# EAGLE library part TM4C123GH6PMI (library tiva)
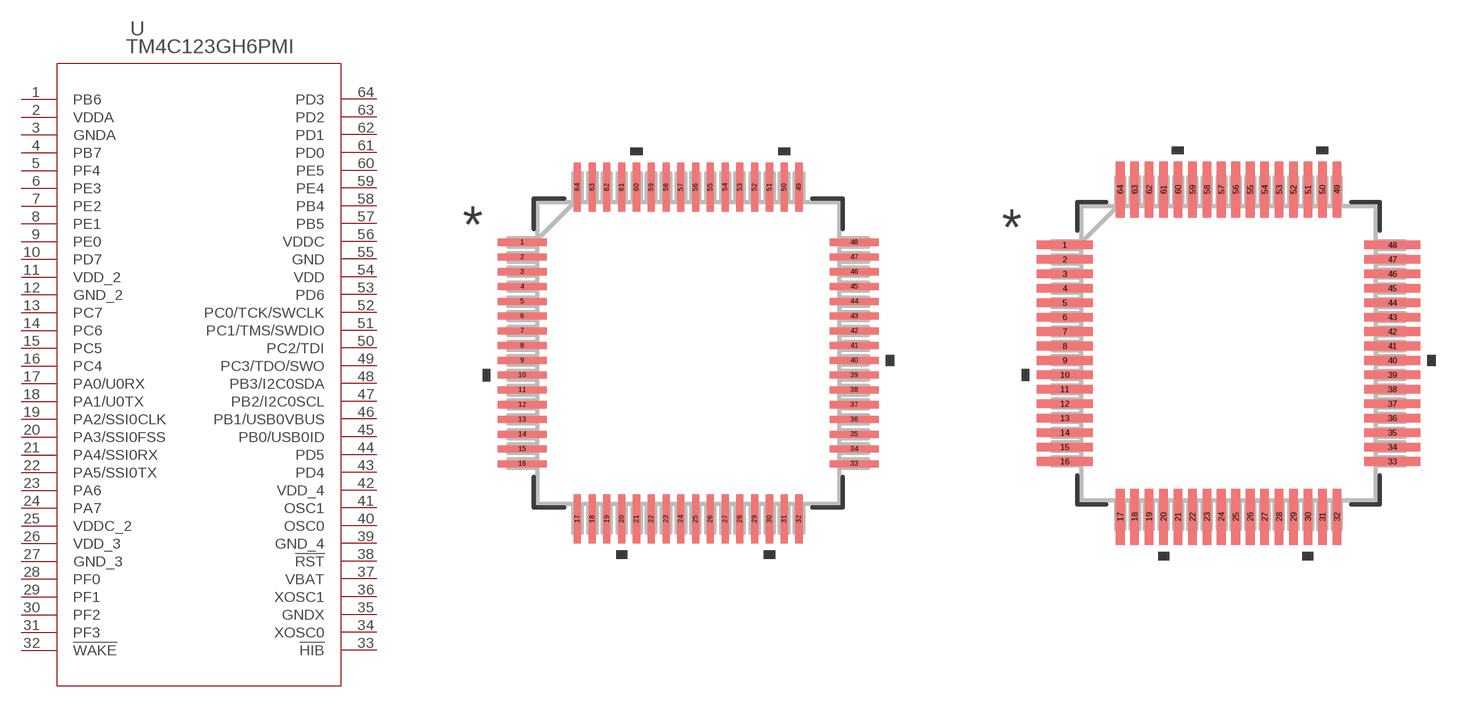
[diagram p0: symbol with the pads of PM64; footprints PM64, PM64-M]

Designator prefix U

## TM4C123GH6PMI (MANUFACTURER_PART_NUMBER: TM4C123GH6PMI; VENDOR: Texas Instruments)  [PM64]
1  PB6
2  VDDA  pwr
3  GNDA  pwr
4  PB7
5  PF4
6  PE3
7  PE2
8  PE1
9  PE0
10  PD7
11  VDD_2  pwr
12  GND_2  pwr
13  PC7
14  PC6
15  PC5
16  PC4
17  PA0/U0RX
18  PA1/U0TX
19  PA2/SSI0CLK
20  PA3/SSI0FSS
21  PA4/SSI0RX
22  PA5/SSI0TX
23  PA6
24  PA7
25  VDDC_2  pwr
26  VDD_3  pwr
27  GND_3  pwr
28  PF0
29  PF1
30  PF2
31  PF3
32  !WAKE  in
33  !HIB  out
34  XOSC0  in
35  GNDX  pwr
36  XOSC1  out
37  VBAT  pwr
38  !RST  in
39  GND_4  pwr
40  OSC0  in
41  OSC1  out
42  VDD_4  pwr
43  PD4
44  PD5
45  PB0/USB0ID
46  PB1/USB0VBUS
47  PB2/I2C0SCL
48  PB3/I2C0SDA
49  PC3/TDO/SWO
50  PC2/TDI
51  PC1/TMS/SWDIO
52  PC0/TCK/SWCLK
53  PD6
54  VDD  pwr
55  GND  pwr
56  VDDC  pwr
57  PB5
58  PB4
59  PE4
60  PE5
61  PD0
62  PD1
63  PD2
64  PD3

## TM4C123GH6PMIPM64-M (MANUFACTURER_PART_NUMBER: TM4C123GH6PMI; VENDOR: Texas Instruments)  [PM64-M]
Pads as for PM64

## TM4C123GH6PMIPM64-L (MANUFACTURER_PART_NUMBER: TM4C123GH6PMI; VENDOR: Texas Instruments)  [PM64-L]
Pads as for PM64

## Footprint PM64 (pad centres in mm)
smd 1.653 x 0.239: 1 -5.62,3.75; 2 -5.62,3.25; 3 -5.62,2.75; 4 -5.62,2.25; 5 -5.62,1.75; 6 -5.62,1.25; 7 -5.62,0.75; 8 -5.62,0.25; 9 -5.62,-0.25; 10 -5.62,-0.75; 11 -5.62,-1.25; 12 -5.62,-1.75; 13 -5.62,-2.25; 14 -5.62,-2.75; 15 -5.62,-3.25; 16 -5.62,-3.75; 33 5.62,-3.75; 34 5.62,-3.25; 35 5.62,-2.75; 36 5.62,-2.25; 37 5.62,-1.75; 38 5.62,-1.25; 39 5.62,-0.75; 40 5.62,-0.25; 41 5.62,0.25; 42 5.62,0.75; 43 5.62,1.25; 44 5.62,1.75; 45 5.62,2.25; 46 5.62,2.75; 47 5.62,3.25; 48 5.62,3.75
smd 0.239 x 1.653: 17 -3.75,-5.62; 18 -3.25,-5.62; 19 -2.75,-5.62; 20 -2.25,-5.62; 21 -1.75,-5.62; 22 -1.25,-5.62; 23 -0.75,-5.62; 24 -0.25,-5.62; 25 0.25,-5.62; 26 0.75,-5.62; 27 1.25,-5.62; 28 1.75,-5.62; 29 2.25,-5.62; 30 2.75,-5.62; 31 3.25,-5.62; 32 3.75,-5.62; 49 3.75,5.62; 50 3.25,5.62; 51 2.75,5.62; 52 2.25,5.62; 53 1.75,5.62; 54 1.25,5.62; 55 0.75,5.62; 56 0.25,5.62; 57 -0.25,5.62; 58 -0.75,5.62; 59 -1.25,5.62; 60 -1.75,5.62; 61 -2.25,5.62; 62 -2.75,5.62; 63 -3.25,5.62; 64 -3.75,5.62

## Footprint PM64-M (pad centres in mm)
smd 1.952 x 0.299: 1 -5.67,3.75; 2 -5.67,3.25; 3 -5.67,2.75; 4 -5.67,2.25; 5 -5.67,1.75; 6 -5.67,1.25; 7 -5.67,0.75; 8 -5.67,0.25; 9 -5.67,-0.25; 10 -5.67,-0.75; 11 -5.67,-1.25; 12 -5.67,-1.75; 13 -5.67,-2.25; 14 -5.67,-2.75; 15 -5.67,-3.25; 16 -5.67,-3.75; 33 5.67,-3.75; 34 5.67,-3.25; 35 5.67,-2.75; 36 5.67,-2.25; 37 5.67,-1.75; 38 5.67,-1.25; 39 5.67,-0.75; 40 5.67,-0.25; 41 5.67,0.25; 42 5.67,0.75; 43 5.67,1.25; 44 5.67,1.75; 45 5.67,2.25; 46 5.67,2.75; 47 5.67,3.25; 48 5.67,3.75
smd 0.299 x 1.952: 17 -3.75,-5.67; 18 -3.25,-5.67; 19 -2.75,-5.67; 20 -2.25,-5.67; 21 -1.75,-5.67; 22 -1.25,-5.67; 23 -0.75,-5.67; 24 -0.25,-5.67; 25 0.25,-5.67; 26 0.75,-5.67; 27 1.25,-5.67; 28 1.75,-5.67; 29 2.25,-5.67; 30 2.75,-5.67; 31 3.25,-5.67; 32 3.75,-5.67; 49 3.75,5.67; 50 3.25,5.67; 51 2.75,5.67; 52 2.25,5.67; 53 1.75,5.67; 54 1.25,5.67; 55 0.75,5.67; 56 0.25,5.67; 57 -0.25,5.67; 58 -0.75,5.67; 59 -1.25,5.67; 60 -1.75,5.67; 61 -2.25,5.67; 62 -2.75,5.67; 63 -3.25,5.67; 64 -3.75,5.67

## Footprint PM64-L (pad centres in mm)
smd 1.353 x 0.199: 1 -5.57,3.75; 2 -5.57,3.25; 3 -5.57,2.75; 4 -5.57,2.25; 5 -5.57,1.75; 6 -5.57,1.25; 7 -5.57,0.75; 8 -5.57,0.25; 9 -5.57,-0.25; 10 -5.57,-0.75; 11 -5.57,-1.25; 12 -5.57,-1.75; 13 -5.57,-2.25; 14 -5.57,-2.75; 15 -5.57,-3.25; 16 -5.57,-3.75; 33 5.57,-3.75; 34 5.57,-3.25; 35 5.57,-2.75; 36 5.57,-2.25; 37 5.57,-1.75; 38 5.57,-1.25; 39 5.57,-0.75; 40 5.57,-0.25; 41 5.57,0.25; 42 5.57,0.75; 43 5.57,1.25; 44 5.57,1.75; 45 5.57,2.25; 46 5.57,2.75; 47 5.57,3.25; 48 5.57,3.75
smd 0.199 x 1.353: 17 -3.75,-5.57; 18 -3.25,-5.57; 19 -2.75,-5.57; 20 -2.25,-5.57; 21 -1.75,-5.57; 22 -1.25,-5.57; 23 -0.75,-5.57; 24 -0.25,-5.57; 25 0.25,-5.57; 26 0.75,-5.57; 27 1.25,-5.57; 28 1.75,-5.57; 29 2.25,-5.57; 30 2.75,-5.57; 31 3.25,-5.57; 32 3.75,-5.57; 49 3.75,5.57; 50 3.25,5.57; 51 2.75,5.57; 52 2.25,5.57; 53 1.75,5.57; 54 1.25,5.57; 55 0.75,5.57; 56 0.25,5.57; 57 -0.25,5.57; 58 -0.75,5.57; 59 -1.25,5.57; 60 -1.75,5.57; 61 -2.25,5.57; 62 -2.75,5.57; 63 -3.25,5.57; 64 -3.75,5.57